# Altium footprint library CON-2mm.PcbLib: 6 footprints
Each footprint in its own frame and in the unit in brackets; x right, y up, seen from the top. Pads: shape width x height; smd on the part's side, far side on the other; paste and mask are expansions set on the pad; w line width, h text height; cw(c..) or ccw(c..) is an arc to the next point about the centre after c.
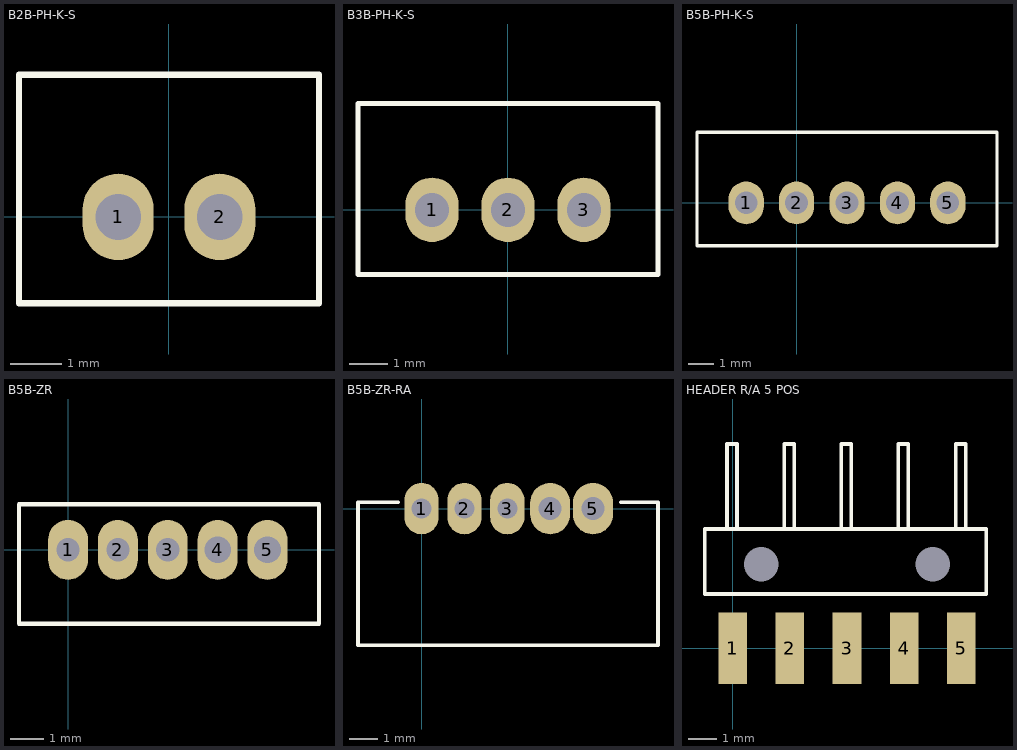
[diagram p0: the footprints below, top view; thin cyan lines are the x and y axes]

## B2B-PH-K-S [mm]
pads (2):
  oval 1.4x1.7 hole 0.9 mask+0.14: 1(-1,0) 2(1,0)
Top Overlay:
  lines w0.127: -2.95,-1.7 -2.95,2.8 2.95,2.8 2.95,-1.7 -2.95,-1.7
3D body "B2B-PH-K-S.STEP": height 6, standoff -3.4, extent -2.921,-1.755 2.979,2.745

## B3B-PH-K-S [mm]
pads (3):
  oval 1.4x1.7 hole 0.9 mask+0.14: 1(-2,0) 2(0,0) 3(2,0)
Top Overlay:
  lines w0.127: 3.95,2.8 3.95,-1.7 -3.95,-1.7 -3.95,2.8 3.953,2.8
3D body "B3B-PH-K-S.STEP": height 6.01, standoff -3.39, extent -3.95,-1.7 3.95,2.8

## B5B-PH-K-S [mm]
pads (5):
  oval 1.4x1.7 hole 0.9 mask+0.14: 1(-2,0) 2(0,0) 3(2,0) 4(4,0) 5(6,0)
Top Overlay:
  lines w0.127: -3.95,-1.7 -3.95,2.8 7.95,2.8 7.95,-1.7 -3.95,-1.7
3D body "B5B-PH-K-S.STEP": height 6.01, standoff -3.39, extent -3.918,-1.7 7.982,2.8

## B5B-ZR [mm] "CONN HEADER VERT 5POS 1.5MM"
pads (5):
  oval 1.2x1.8 hole 0.7 unplated: 1(0,0) 2(1.5,0) 3(3,0)
  oval 1.2x1.8 hole 0.8 unplated: 4(4.5,0) 5(6,0)
Top Overlay:
  lines w0.127: -1.475,-2.225 -1.475,1.375 7.55,1.375 7.55,-2.225 -1.475,-2.225
3D body "B5B-ZR.STEP": height 4.51, standoff -2.69, extent -1.475,-2.2 7.525,1.3

## B5B-ZR-RA [mm] "CONN HEADER SMD 5POS 1.5MM"
pads (5):
  oval 1.2x1.8 hole 0.7 unplated: 1(0,0) 2(1.5,0) 3(3,0)
  oval 1.4x1.8 hole 0.8 unplated: 4(4.5,0) 5(6,0)
Top Overlay:
  lines w0.127: -0.825,0.225 -2.225,0.225 -2.225,-4.775 8.275,-4.775 8.275,0.225 6.975,0.225
3D body "B5B-ZR-SM4-TF.STEP": height 3.71, standoff -1.49, extent -2.225,-4.775 8.275,0.225

## HEADER R/A 5 POS [mm]
pads (7):
  rect 1x2.5 smd: 1(0,0) 2(2,0) 3(4,0) 4(6,0) 5(8,0)
  round 0 hole 1.2 unplated: 6(1,2.94) 6(7,2.94)
Top Overlay:
  lines w0.127: -0.975,1.9 8.875,1.9 8.875,4.175 -0.975,4.175 -0.975,1.9 ; -0.2,4.175 0.15,4.175 0.15,7.15 -0.2,7.15 -0.2,4.175 ; 1.8,4.175 1.8,7.15 2.15,7.15 2.15,4.175 1.8,4.175 ; 3.8,4.175 3.8,7.15 4.15,7.15 4.15,4.175 3.8,4.175 ; 5.8,4.175 5.8,7.15 6.15,7.15 6.15,4.175 5.8,4.175 ; 7.8,4.175 7.8,7.15 8.15,7.15 8.15,4.175 7.8,4.175
3D body "878580550.stp": height 2.09, standoff 0.01, extent -0.975,-0.8 8.925,7.2